# Altium footprint library SMA.PcbLib: 1 footprints
Each footprint in its own frame and in the unit in brackets; x right, y up, seen from the top. Pads: shape width x height; smd on the part's side, far side on the other; paste and mask are expansions set on the pad; w line width, h text height; cw(c..) or ccw(c..) is an arc to the next point about the centre after c.
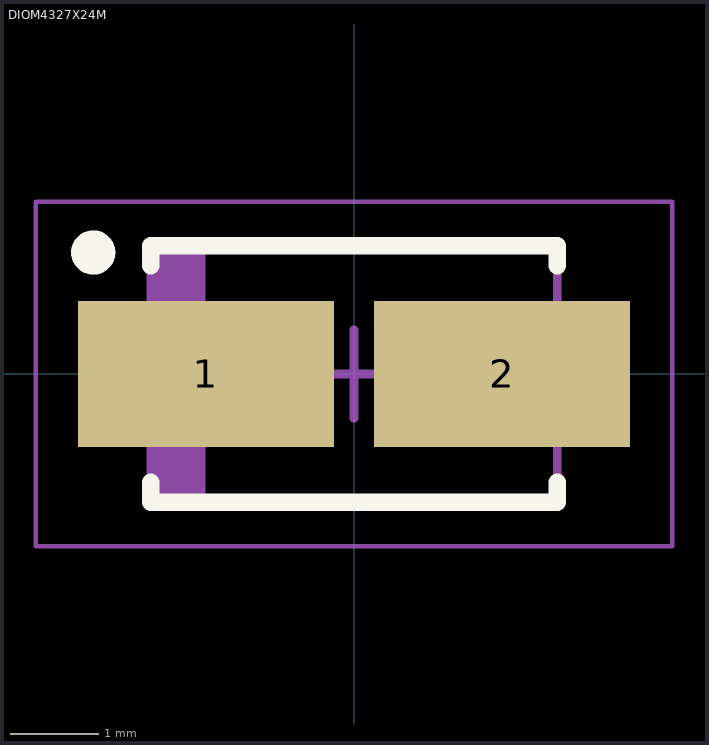
[diagram p0: the footprint, top view; thin cyan lines are the x and y axes]

## DIOM4327X24M [mm] "Molded Diode, 2-Leads, Body 4.29x2.69mm, IPC Low Density"
height 2.44
pads (2):
  rect 2.9x1.65 smd: 1(-1.675,0) 2(1.675,0)
Top Overlay:
  circle w0.25: c-2.95,1.375 r0.125
  lines w0.2: -2.3,-1.225 -2.3,-1.45 2.3,-1.45 2.3,-1.225 ; -2.3,1.225 -2.3,1.45 2.3,1.45 2.3,1.225
Mechanical 13:
  rectangle: -2.3,-1.45 -1.681,1.45
  lines w0.1: -2.3,-1.45 2.3,-1.45 2.3,1.45 -2.3,1.45 -2.3,-1.45
Mechanical 15:
  lines w0.05: -3.6,-1.95 3.6,-1.95 3.6,1.95 -3.6,1.95 -3.6,-1.95
  lines w0.1: -0.5,0 0.5,0 ; 0,-0.5 0,0.5
3D body: height 2.44, standoff 0, extent -2.3,-1.45 2.3,1.45